# Altium footprint library RC0402FR-0710KL.PcbLib: 3 footprints
Each footprint in its own frame and in the unit in brackets; x right, y up, seen from the top. Pads: shape width x height; smd on the part's side, far side on the other; paste and mask are expansions set on the pad; w line width, h text height; cw(c..) or ccw(c..) is an arc to the next point about the centre after c.
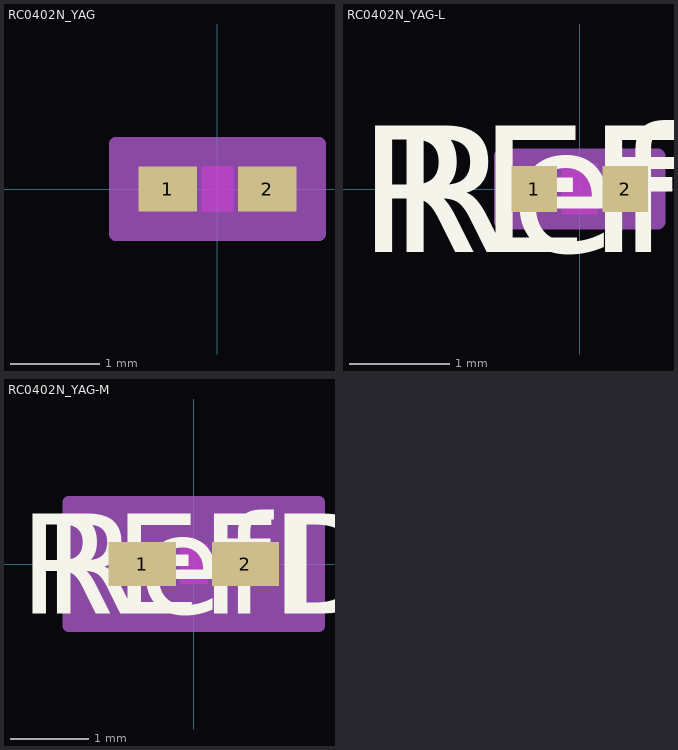
[diagram p0: the footprints below, top view; thin cyan lines are the x and y axes]

## RC0402N_YAG [mil]
pads (2):
  rect 25.78x20 smd paste+0 mask+0: 1(-21.89,0) 2(21.89,0)
Top Layer keep-out:
  region: -7,-8 -7,8 7,8 7,-8
Top Overlay:
Keep-Out Layer:
  region: -7,-10 -7,10 7,10 7,-10
Mechanical 13:
  lines w1: -21,-10 -21,10 ; -21,-10 21,-10 ; -21,-10 -9,-10 -9,10 -21,10 ; -21,-10 -21,10 ; -21,10 21,10 ; 21,-10 21,10 ; 21,-10 21,10 ; 21,-10 9,-10 9,10 21,10
Mechanical 15:
  region: 44.78,-20 -44.78,-20 -44.78,20 44.78,20
  lines w6: -44.78,-20 44.78,-20 44.78,20 -44.78,20 -44.78,-20
3D body "RC0402N_YAG.step": height 27.99, standoff 0, extent -20.98,-10 20.98,10

## RC0402N_YAG-L [mil]
pads (2):
  rect 17.91x18.03 smd paste+0 mask+0: 1(-17.95,0) 2(17.95,0)
Top Layer keep-out:
  region: -7,-8 -7,8 7,8 7,-8
Top Overlay:
  text "RefDes" at -75,-25 h50
  text "REFDES" at -87.5,-25 h50
Keep-Out Layer:
  region: -7,-10 -7,10 7,10 7,-10
Mechanical 13:
  lines w1: -21,-10 -21,10 ; -21,-10 -9,-10 -9,10 -21,10 ; -21,-10 21,-10 ; -21,-10 -21,10 ; -21,10 21,10 ; 21,-10 9,-10 9,10 21,10 ; 21,-10 21,10 ; 21,-10 21,10
  text "RefDes2" at -87.5,-25 h50
Mechanical 15:
  region: 30.91,-13.02 -30.91,-13.02 -30.91,13.02 30.91,13.02
  lines w6: -30.91,-13.02 -30.91,13.02 30.91,13.02 30.91,-13.02 -30.91,-13.02
3D body "RC0402N_YAG.step": height 27.99, standoff 0, extent -20.98,-10 20.98,10

## RC0402N_YAG-M [mil]
pads (2):
  rect 33.65x21.97 smd paste+0 mask+0: 1(-25.83,0) 2(25.83,0)
Top Layer keep-out:
  region: -7,-8 -7,8 7,8 7,-8
Top Overlay:
  text "RefDes" at -75,-25 h50
  text "REFDES" at -87.5,-25 h50
Keep-Out Layer:
  region: -7,-10 -7,10 7,10 7,-10
Mechanical 13:
  lines w1: -21,-10 -21,10 ; -21,-10 -9,-10 -9,10 -21,10 ; -21,-10 21,-10 ; -21,-10 -21,10 ; -21,10 21,10 ; 21,-10 9,-10 9,10 21,10 ; 21,-10 21,10 ; 21,-10 21,10
  text "RefDes2" at -87.5,-25 h50
Mechanical 15:
  region: 62.65,-30.98 -62.65,-30.98 -62.65,30.98 62.65,30.98
  lines w6: -62.65,-30.98 -62.65,30.98 62.65,30.98 62.65,-30.98 -62.65,-30.98
3D body "RC0402N_YAG.step": height 27.99, standoff 0, extent -20.98,-10 20.98,10